# EAGLE library part ATTINY24/44/84 (library atmel_tiny24-44-84tiny48-88mega48-88-168-328)
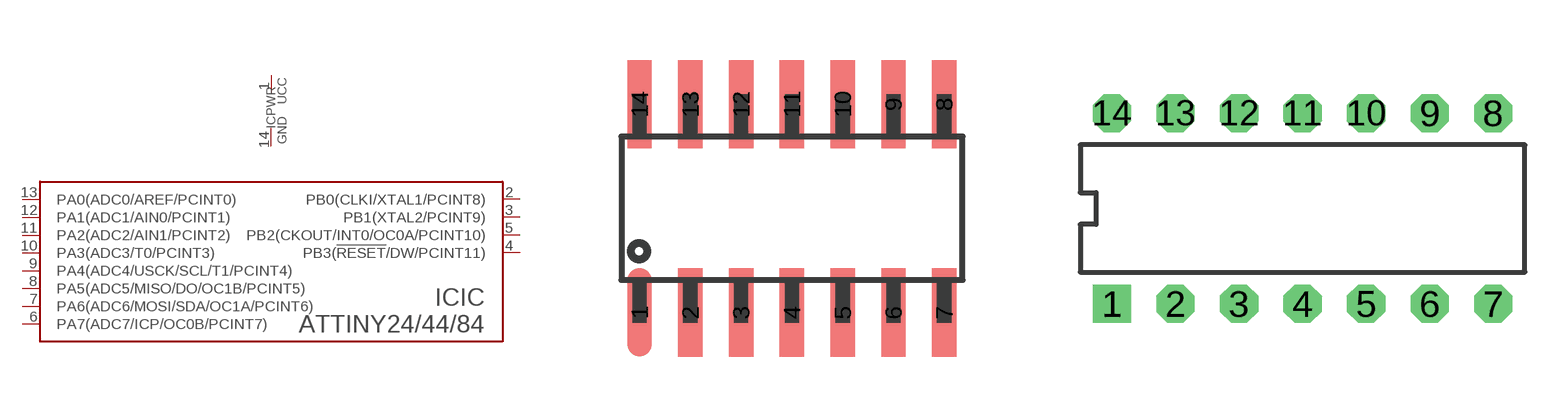
[diagram p4: symbol with the pads of SOIC14; footprints SOIC14, DIL14]

Designator prefix IC; gates IC=ATTINY24/44/84 PWR=!UCC+GND

## ATTINY24/44/84-SSU  [SOIC14]
1  PWR:UCC  pwr
2  IC:PB0(CLKI/XTAL1/PCINT8)
3  IC:PB1(XTAL2/PCINT9)
4  IC:PB3(!RESET!/DW/PCINT11)
5  IC:PB2(CKOUT/INT0/OC0A/PCINT10)
6  IC:PA7(ADC7/ICP/OC0B/PCINT7)
7  IC:PA6(ADC6/MOSI/SDA/OC1A/PCINT6)
8  IC:PA5(ADC5/MISO/DO/OC1B/PCINT5)
9  IC:PA4(ADC4/USCK/SCL/T1/PCINT4)
10  IC:PA3(ADC3/T0/PCINT3)
11  IC:PA2(ADC2/AIN1/PCINT2)
12  IC:PA1(ADC1/AIN0/PCINT1)
13  IC:PA0(ADC0/AREF/PCINT0)
14  PWR:GND  pwr

## ATTINY24/44/84-PU  [DIL14]
Pads as for SOIC14

## ATTINY24/44/84-MU  [MLF20]
1  IC:PA4(ADC4/USCK/SCL/T1/PCINT4)
2  IC:PA3(ADC3/T0/PCINT3)
3  IC:PA2(ADC2/AIN1/PCINT2)
4  IC:PA1(ADC1/AIN0/PCINT1)
5  IC:PA0(ADC0/AREF/PCINT0)
8  PWR:GND  pwr
9  PWR:UCC  pwr
11  IC:PB0(CLKI/XTAL1/PCINT8)
12  IC:PB1(XTAL2/PCINT9)
13  IC:PB3(!RESET!/DW/PCINT11)
14  IC:PB2(CKOUT/INT0/OC0A/PCINT10)
15  IC:PA7(ADC7/ICP/OC0B/PCINT7)
16  IC:PA6(ADC6/MOSI/SDA/OC1A/PCINT6)
20  IC:PA5(ADC5/MISO/DO/OC1B/PCINT5)
TH  PWR:GND  pwr

## Footprint SOIC14 (pad centres in mm)
Small Outline Package
smd 0.61 x 2.21: 1 -3.81,-2.603; 2 -2.54,-2.603; 3 -1.27,-2.603; 4 0,-2.603; 5 1.27,-2.603; 6 2.54,-2.603; 7 3.81,-2.603; 8 3.81,2.603; 9 2.54,2.603; 10 1.27,2.603; 11 0,2.603; 12 -1.27,2.603; 13 -2.54,2.603; 14 -3.81,2.603

## Footprint DIL14 (pad centres in mm)
drill 0.889 pad 1.524 square: 1 -7.62,-3.81
drill 0.889 pad 1.524 octagon: 2 -5.08,-3.81; 3 -2.54,-3.81; 4 0,-3.81; 5 2.54,-3.81; 6 5.08,-3.81; 7 7.62,-3.81; 8 7.62,3.81; 9 5.08,3.81; 10 2.54,3.81; 11 0,3.81; 12 -2.54,3.81; 13 -5.08,3.81; 14 -7.62,3.81

## Footprint MLF20 (pad centres in mm)
20M1, 20-pad, 4 x 4 x 0.8 mm Body, Lead Pitch 0.50 mm, 2.6 mm Exposed Pad, Micro Lead Frame Package (MLF) Atmel
smd 0.8 x 0.3: 1 -1.95,1; 2 -1.95,0.5; 3 -1.95,0; 4 -1.95,-0.5; 5 -1.95,-1; 11 1.95,-1; 12 1.95,-0.5; 13 1.95,0; 14 1.95,0.5; 15 1.95,1
smd 0.3 x 0.8: 6 -1,-1.95; 7 -0.5,-1.95; 8 0,-1.95; 9 0.5,-1.95; 10 1,-1.95; 16 1,1.95; 17 0.5,1.95; 18 0,1.95; 19 -0.5,1.95; 20 -1,1.95
smd 2.6 x 2.6: TH 0,0